# EAGLE library part LSM (library bluepill)
lsm
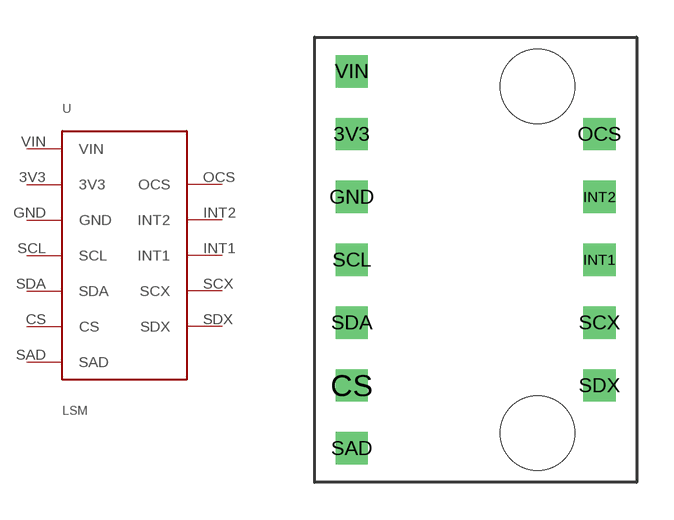
[diagram p0: symbol with the pads of LSM; footprint LSM]

Designator prefix -

## LSM  [LSM]
3V3  3V3
CS  CS
GND  GND
INT1  INT1
INT2  INT2
OCS  OCS
SAD  SAD
SCL  SCL
SCX  SCX
SDA  SDA
SDX  SDX
VIN  VIN

## Footprint LSM (pad centres in mm)
lsm
drill 0.8 square: 3V3 -5,5.08; CS -5,-5.08; GND -5,2.54; INT1 5,0; INT2 5,2.54; OCS 5,5.08; SAD -5,-7.62; SCL -5,0; SCX 5,-2.54; SDA -5,-2.54; SDX 5,-5.08; VIN -5,7.62
hole 3 at 2.5,7
hole 3 at 2.5,-7